# Altium integrated library Linear Technology Power Management Current Sources.IntLib: 79 symbols (part 2 of 7)
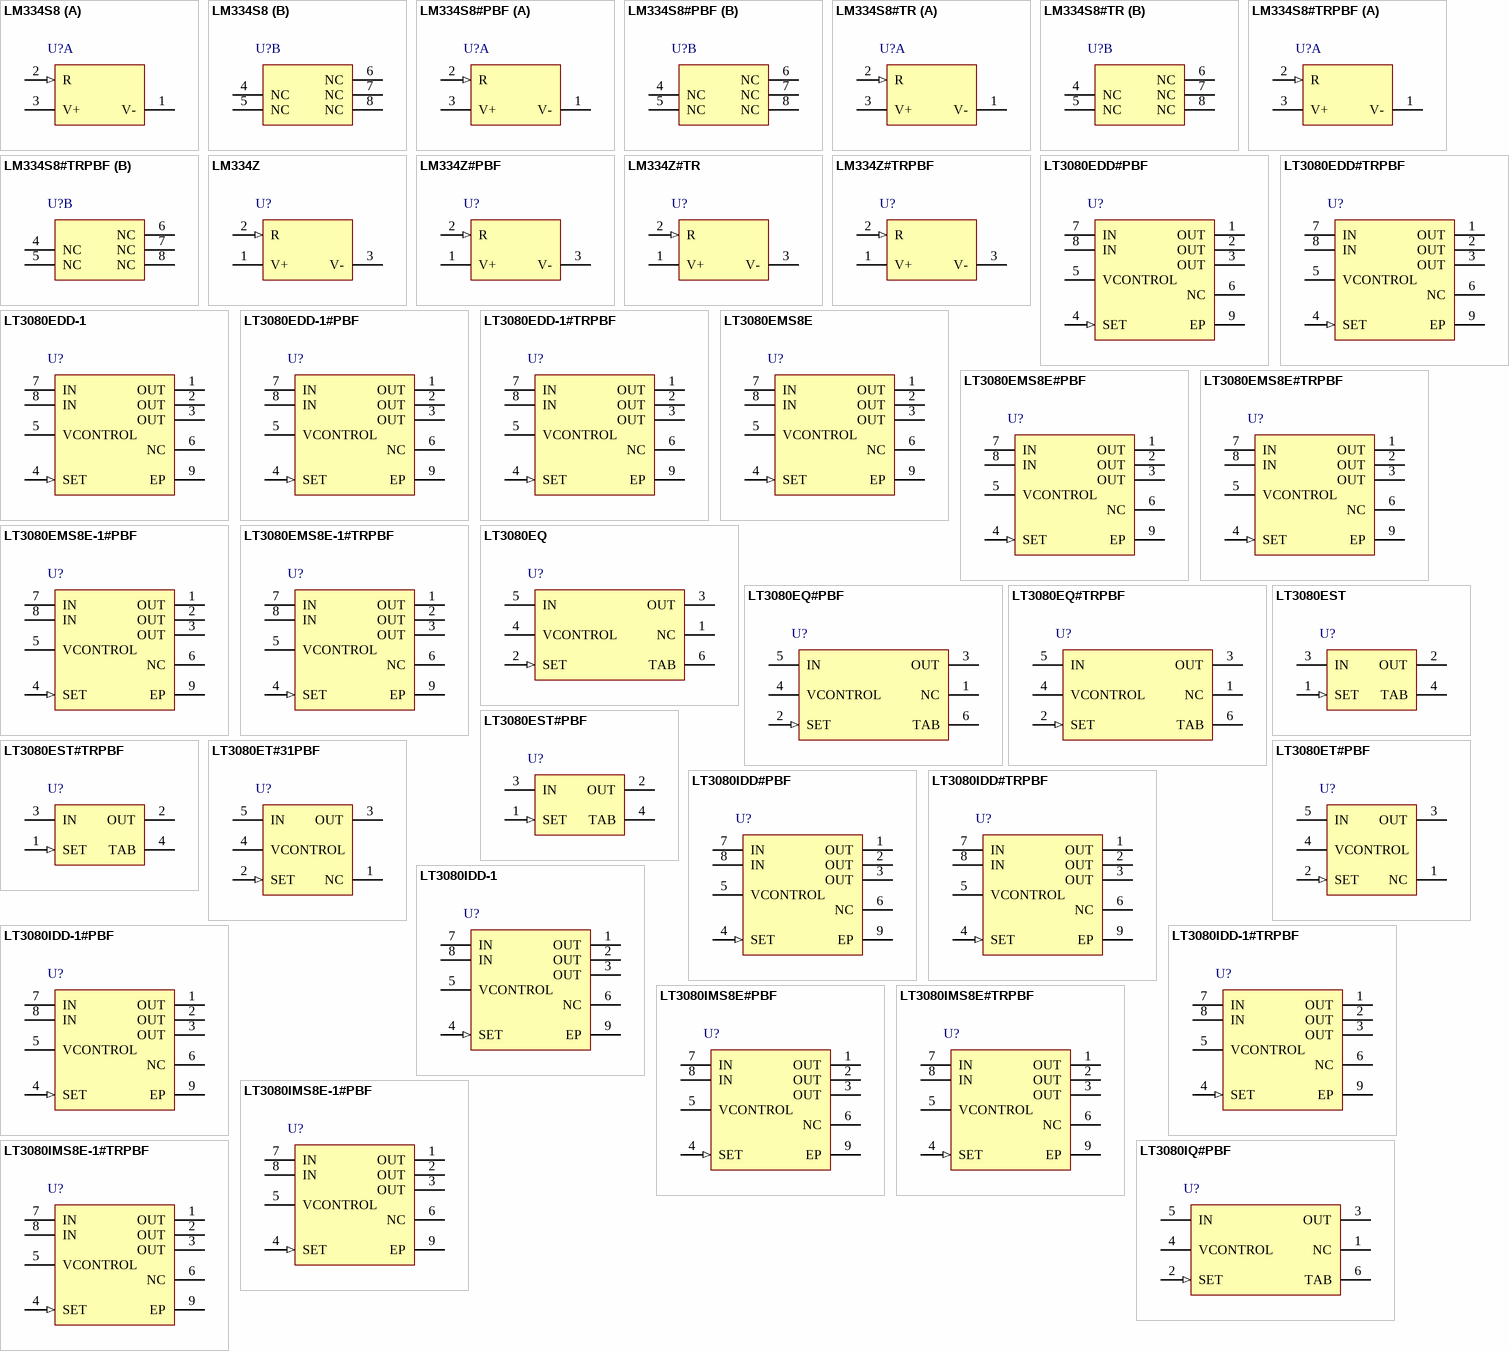
[diagram p3: symbols LM334S8 to LT3080IQ#PBF]

## LT3080EST#TRPBF
designator U?
Adjustable 1.1 A Single Resistor Low Dropout Regulator, 0.3 mA Isupply, 3-pin SOT223 (ST-3), -40 to 125 degC, Pb-Free, Tape and Reel; Manufacturer: Linear Technology; PartNumber: LT3080EST#TRPBF; Extended Temp: E, I; Initial Accuracy(%): 1; Isupply(mA): 0.3; Vin Max(V): 36; Vin Min(V): 1.2; DatasheetVersion: Rev. F; PackageVersion: Jun-10; PackageReference: ST-3; PackageDescription: 3-Pin Plastic SOT-223, Body 3.505 x 6.505 mm, Pitch 2.3 mm; Supplier 1: Digi-Key; Supplier Part Number 1: LT3080EST#TRPBFTR-ND; Supplier 2: Digi-Key; Supplier Part Number 2: LT3080EST#TRPBFCT-ND; Supplier 3: Digi-Key; Supplier Part Number 3: LT3080EST#TRPBFDKR-ND; Supplier 4: Newark; Supplier Part Number 4: 75M4719; Packing: Tape and Reel; RoHS: TRUE; Mounting Technology: Surface Mount; ComponentLink1Description: Manufacturer URL; ComponentLink1URL: http://www.linear.com/; ComponentLink2Description: Datasheet; ComponentLink2URL: http://cds.linear.com/docs/en/datasheet/3080fc.pdf; ComponentLink3Description: Package Specification; ComponentLink3URL: http://cds.linear.com/docs/en/packaging/SOT_3_05-08-1630.pdf
footprint LT-ST-3-SOT-223_N (SOT223, 4-Leads, Body 6.505x3.505mm, Pitch 2.3mm, IPC Medium Density)
footprint LT-ST-3-SOT-223_L (SOT223, 4-Leads, Body 6.505x3.505mm, Pitch 2.3mm, IPC High Density)
footprint LT-ST-3-SOT-223_M (SOT223, 4-Leads, Body 6.505x3.505mm, Pitch 2.3mm, IPC Low Density)
pins: 1 SET (in) "This pin is the error amplifier’s noninverting input and also sets the operating bias point of the circuit. A fixed 10uA current source flows out of this pin. Two resistors program IOUT as a function of the resistor rati(See Datasheet)", 2 OUT (power) "This is the power output of the device. The minimum current source value to which the device can be set is 0.5mA or the device will not regulate.", 3 IN (power) "This pin supplies power to bias internal circuitry and supply output load current. For the device to operate properly and regulate, the voltage on this pin must be 1.2V to 1.4V above the OUT pin (depending on output load (See Datasheet)", 4 TAB (power)

## LT3080ET#31PBF
designator U?
Adjustable 1.1 A Single Resistor Low Dropout Regulator, 0.3 mA Isupply, 5-pin FM (T-5), -40 to 125 degC, Pb-Free; Manufacturer: Linear Technology; PartNumber: LT3080ET#31PBF; Extended Temp: E, I; Initial Accuracy(%): 1; Isupply(mA): 0.3; Vin Max(V): 36; Vin Min(V): 1.2; DatasheetVersion: Rev. F; PackageVersion: Aug-10; PackageReference: T-5; PackageDescription: 5-Pin Plastic TO-220 (Standard), Body 10.224 x 8.89 mm, Pitch 1.7 mm; Supplier 1: Digi-Key; Supplier Part Number 1: LT3080ET#31PBF-ND; RoHS: TRUE; Mounting Technology: Through Hole; ComponentLink1Description: Manufacturer URL; ComponentLink1URL: http://www.linear.com/; ComponentLink2Description: Datasheet; ComponentLink2URL: http://cds.linear.com/docs/en/datasheet/3080fc.pdf; ComponentLink3Description: Package Specification; ComponentLink3URL: http://cds.linear.com/docs/en/packaging/TO-220_5_05-08-1421.pdf
footprint LT-T-5-S (FM, 5-Leads, Body 10.2235x4.3815mm, Pitch 1.7mm)
pins: 1 NC "No Connection. No connect pins have no connection to internal circuitry and may be tied to VIN, VCONTROL, VOUT , GND or floated.", 2 SET (in) "This pin is the input to the error amplifier and the regulation set point for the device. A fixed current of 10uA flows out of this pin through a single external resistor, which programs the output voltage of the device. (See Datasheet)", 3 OUT (power) "This is the power output of the device. There must be a minimum load current of 1mA or the output may not regulate.", 4 VCONTROL (power) "This pin is the supply pin for the control circuitry of the device. The current flow into this pin is about 1.7% of the output current. For the device to regulate, this voltage must be more than 1.2V to 1.35V greater than (See Datasheet)", 5 IN (power) "This is the collector to the power device of the LT3080. The output load current is supplied through this pin. For the device to regulate, the voltage at this pin must be more than 0.1V to 0.5V greater than the output (See Datasheet)"

## LT3080ET#PBF
designator U?
Adjustable 1.1 A Single Resistor Low Dropout Regulator, 0.3 mA Isupply, 5-pin FM (T-5), -40 to 125 degC, Pb-Free; Manufacturer: Linear Technology; PartNumber: LT3080ET#PBF; Extended Temp: E, I; Initial Accuracy(%): 1; Isupply(mA): 0.3; Vin Max(V): 36; Vin Min(V): 1.2; DatasheetVersion: Rev. F; PackageVersion: Aug-10; PackageReference: T-5; PackageDescription: 5-Pin Plastic TO-220 (Standard), Body 10.224 x 8.89 mm, Pitch 1.7 mm; Supplier 1: Digi-Key; Supplier Part Number 1: LT3080ET#PBF-ND; Supplier 2: Farnell; Supplier Part Number 2: 2102611; Supplier 3: Farnell; Supplier Part Number 3: 1537445; Supplier 4: Newark; Supplier Part Number 4: 64M0567; RoHS: TRUE; Mounting Technology: Through Hole; ComponentLink1Description: Manufacturer URL; ComponentLink1URL: http://www.linear.com/; ComponentLink2Description: Datasheet; ComponentLink2URL: http://cds.linear.com/docs/en/datasheet/3080fc.pdf; ComponentLink3Description: Package Specification; ComponentLink3URL: http://cds.linear.com/docs/en/packaging/TO-220_5_05-08-1421.pdf
footprint LT-T-5-S (FM, 5-Leads, Body 10.2235x4.3815mm, Pitch 1.7mm)
pins: 1 NC "No Connection. No connect pins have no connection to internal circuitry and may be tied to VIN, VCONTROL, VOUT , GND or floated.", 2 SET (in) "This pin is the input to the error amplifier and the regulation set point for the device. A fixed current of 10uA flows out of this pin through a single external resistor, which programs the output voltage of the device. (See Datasheet)", 3 OUT (power) "This is the power output of the device. There must be a minimum load current of 1mA or the output may not regulate.", 4 VCONTROL (power) "This pin is the supply pin for the control circuitry of the device. The current flow into this pin is about 1.7% of the output current. For the device to regulate, this voltage must be more than 1.2V to 1.35V greater than (See Datasheet)", 5 IN (power) "This is the collector to the power device of the LT3080. The output load current is supplied through this pin. For the device to regulate, the voltage at this pin must be more than 0.1V to 0.5V greater than the output (See Datasheet)"

## LT3080IDD#PBF
designator U?
Adjustable 1.1 A Single Resistor Low Dropout Regulator, 0.3 mA Isupply, 8-pin SON (DD-8), -40 to 125 degC, Pb-Free; Manufacturer: Linear Technology; PartNumber: LT3080IDD#PBF; Extended Temp: E, I; Initial Accuracy(%): 1; Isupply(mA): 0.3; Vin Max(V): 36; Vin Min(V): 1.2; DatasheetVersion: Rev. F; PackageVersion: Jun-10; PackageReference: DD-8; PackageDescription: 8-Pin Plastic DFN, Body 3 x 3 mm, Pitch 0.5 mm; Supplier 1: Digi-Key; Supplier Part Number 1: LT3080IDD#PBF-ND; Supplier 2: Newark; Supplier Part Number 2: 78T3967; RoHS: TRUE; Mounting Technology: Surface Mount; Code_JEDEC: MO-229; ComponentLink1Description: Manufacturer URL; ComponentLink1URL: http://www.linear.com/; ComponentLink2Description: Datasheet; ComponentLink2URL: http://cds.linear.com/docs/en/datasheet/3080fc.pdf; ComponentLink3Description: Package Specification; ComponentLink3URL: http://cds.linear.com/docs/en/packaging/DFN_8_05-08-1698.pdf
footprint LT-DD-8_V (SON, 8-Leads, Body 3x3mm, Pitch 0.5mm, Thermal Pad 1.65x2.38 mm, IPC Low Density)
pins: 1 OUT (power) "This is the power output of the device. There must be a minimum load current of 1mA or the output may not regulate.", 2 OUT (power) "This is the power output of the device. There must be a minimum load current of 1mA or the output may not regulate.", 3 OUT (power) "This is the power output of the device. There must be a minimum load current of 1mA or the output may not regulate.", 4 SET (in) "This pin is the input to the error amplifier and the regulation set point for the device. A fixed current of 10uA flows out of this pin through a single external resistor, which programs the output voltage of the device. (See Datasheet)", 5 VCONTROL (power) "This pin is the supply pin for the control circuitry of the device. The current flow into this pin is about 1.7% of the output current. For the device to regulate, this voltage must be more than 1.2V to 1.35V greater than (See Datasheet)", 6 NC "No Connection. No Connect pins have no connection to internal circuitry and may be tied to VIN, VCONTROL, VOUT , GND, or floated.", 7 IN (power) "This is the collector to the power device of the LT3080-1. The output load current is supplied through this pin. For the device to regulate, the voltage at this pin must be more than 0.1V to 0.5V greater than the output (See Datasheet)", 8 IN (power) "This is the collector to the power device of the LT3080-1. The output load current is supplied through this pin. For the device to regulate, the voltage at this pin must be more than 0.1V to 0.5V greater than the output (See Datasheet)", 9 EP (power) "OUT on MS8E and DFN packages."

## LT3080IDD#TRPBF
designator U?
Adjustable 1.1 A Single Resistor Low Dropout Regulator, 0.3 mA Isupply, 8-pin SON (DD-8), -40 to 125 degC, Pb-Free, Tape and Reel; Manufacturer: Linear Technology; PartNumber: LT3080IDD#TRPBF; Extended Temp: E, I; Initial Accuracy(%): 1; Isupply(mA): 0.3; Vin Max(V): 36; Vin Min(V): 1.2; DatasheetVersion: Rev. F; PackageVersion: Jun-10; PackageReference: DD-8; PackageDescription: 8-Pin Plastic DFN, Body 3 x 3 mm, Pitch 0.5 mm; Supplier 1: Digi-Key; Supplier Part Number 1: LT3080IDD#TRPBF-ND; Packing: Tape and Reel; RoHS: TRUE; Mounting Technology: Surface Mount; Code_JEDEC: MO-229; ComponentLink1Description: Manufacturer URL; ComponentLink1URL: http://www.linear.com/; ComponentLink2Description: Datasheet; ComponentLink2URL: http://cds.linear.com/docs/en/datasheet/3080fc.pdf; ComponentLink3Description: Package Specification; ComponentLink3URL: http://cds.linear.com/docs/en/packaging/DFN_8_05-08-1698.pdf
footprint LT-DD-8_V (SON, 8-Leads, Body 3x3mm, Pitch 0.5mm, Thermal Pad 1.65x2.38 mm, IPC Low Density)
pins: 1 OUT (power) "This is the power output of the device. There must be a minimum load current of 1mA or the output may not regulate.", 2 OUT (power) "This is the power output of the device. There must be a minimum load current of 1mA or the output may not regulate.", 3 OUT (power) "This is the power output of the device. There must be a minimum load current of 1mA or the output may not regulate.", 4 SET (in) "This pin is the input to the error amplifier and the regulation set point for the device. A fixed current of 10uA flows out of this pin through a single external resistor, which programs the output voltage of the device. (See Datasheet)", 5 VCONTROL (power) "This pin is the supply pin for the control circuitry of the device. The current flow into this pin is about 1.7% of the output current. For the device to regulate, this voltage must be more than 1.2V to 1.35V greater than (See Datasheet)", 6 NC "No Connection. No Connect pins have no connection to internal circuitry and may be tied to VIN, VCONTROL, VOUT , GND, or floated.", 7 IN (power) "This is the collector to the power device of the LT3080-1. The output load current is supplied through this pin. For the device to regulate, the voltage at this pin must be more than 0.1V to 0.5V greater than the output (See Datasheet)", 8 IN (power) "This is the collector to the power device of the LT3080-1. The output load current is supplied through this pin. For the device to regulate, the voltage at this pin must be more than 0.1V to 0.5V greater than the output (See Datasheet)", 9 EP (power) "OUT on MS8E and DFN packages."

## LT3080IDD-1
designator U?
Parallelable 1.1 A Adjustable Single Resistor Low Dropout Regulator, 0.3 mA Isupply, 8-pin SON (DD-8), -40 to 125 degC; Manufacturer: Linear Technology; PartNumber: LT3080IDD-1; Extended Temp: E, I; Initial Accuracy(%): 1; Isupply(mA): 0.3; Output Current Range: 0 to 2200 mA or 0 to 3300 mA; Vin Max(V): 36; Vin Min(V): 1.2; DatasheetVersion: Rev. B; PackageVersion: Jun-10; PackageReference: DD-8; PackageDescription: 8-Pin Plastic DFN, Body 3 x 3 mm, Pitch 0.5 mm; RoHS: FALSE; Mounting Technology: Surface Mount; Code_JEDEC: MO-229; ComponentLink1Description: Manufacturer URL; ComponentLink1URL: http://www.linear.com/; ComponentLink2Description: Datasheet; ComponentLink2URL: http://cds.linear.com/docs/en/datasheet/30801fb.pdf; ComponentLink3Description: Package Specification; ComponentLink3URL: http://cds.linear.com/docs/en/packaging/DFN_8_05-08-1698.pdf
footprint LT-DD-8_V (SON, 8-Leads, Body 3x3mm, Pitch 0.5mm, Thermal Pad 1.65x2.38 mm, IPC Low Density)
pins: 1 OUT (power) "This is the power output of the device. There must be a minimum load current of 1mA or the output may not regulate.", 2 OUT (power) "This is the power output of the device. There must be a minimum load current of 1mA or the output may not regulate.", 3 OUT (power) "This is the power output of the device. There must be a minimum load current of 1mA or the output may not regulate.", 4 SET (in) "This pin is the input to the error amplifier and the regulation set point for the device. A fixed current of 10uA flows out of this pin through a single external resistor, which programs the output voltage of the device. (See Datasheet)", 5 VCONTROL (power) "This pin is the supply pin for the control circuitry of the device. The current flow into this pin is about 1.7% of the output current. For the device to regulate, this voltage must be more than 1.2V to 1.35V greater than (See Datasheet)", 6 NC "No Connection. No Connect pins have no connection to internal circuitry and may be tied to VIN, VCONTROL, VOUT , GND, or floated.", 7 IN (power) "This is the collector to the power device of the LT3080-1. The output load current is supplied through this pin. For the device to regulate, the voltage at this pin must be more than 0.1V to 0.5V greater than the output (See Datasheet)", 8 IN (power) "This is the collector to the power device of the LT3080-1. The output load current is supplied through this pin. For the device to regulate, the voltage at this pin must be more than 0.1V to 0.5V greater than the output (See Datasheet)", 9 EP (power) "OUT on MS8E and DFN packages."

## LT3080IDD-1#PBF
designator U?
Parallelable 1.1 A Adjustable Single Resistor Low Dropout Regulator, 0.3 mA Isupply, 8-pin SON (DD-8), -40 to 125 degC, Pb-Free; Manufacturer: Linear Technology; PartNumber: LT3080IDD-1#PBF; Extended Temp: E, I; Initial Accuracy(%): 1; Isupply(mA): 0.3; Output Current Range: 0 to 2200 mA or 0 to 3300 mA; Vin Max(V): 36; Vin Min(V): 1.2; DatasheetVersion: Rev. B; PackageVersion: Jun-10; PackageReference: DD-8; PackageDescription: 8-Pin Plastic DFN, Body 3 x 3 mm, Pitch 0.5 mm; Supplier 1: Digi-Key; Supplier Part Number 1: LT3080IDD-1#PBF-ND; Supplier 2: Newark; Supplier Part Number 2: 78T3965; RoHS: TRUE; Mounting Technology: Surface Mount; Code_JEDEC: MO-229; ComponentLink1Description: Manufacturer URL; ComponentLink1URL: http://www.linear.com/; ComponentLink2Description: Datasheet; ComponentLink2URL: http://cds.linear.com/docs/en/datasheet/30801fb.pdf; ComponentLink3Description: Package Specification; ComponentLink3URL: http://cds.linear.com/docs/en/packaging/DFN_8_05-08-1698.pdf
footprint LT-DD-8_V (SON, 8-Leads, Body 3x3mm, Pitch 0.5mm, Thermal Pad 1.65x2.38 mm, IPC Low Density)
pins: 1 OUT (power) "This is the power output of the device. There must be a minimum load current of 1mA or the output may not regulate.", 2 OUT (power) "This is the power output of the device. There must be a minimum load current of 1mA or the output may not regulate.", 3 OUT (power) "This is the power output of the device. There must be a minimum load current of 1mA or the output may not regulate.", 4 SET (in) "This pin is the input to the error amplifier and the regulation set point for the device. A fixed current of 10uA flows out of this pin through a single external resistor, which programs the output voltage of the device. (See Datasheet)", 5 VCONTROL (power) "This pin is the supply pin for the control circuitry of the device. The current flow into this pin is about 1.7% of the output current. For the device to regulate, this voltage must be more than 1.2V to 1.35V greater than (See Datasheet)", 6 NC "No Connection. No Connect pins have no connection to internal circuitry and may be tied to VIN, VCONTROL, VOUT , GND, or floated.", 7 IN (power) "This is the collector to the power device of the LT3080-1. The output load current is supplied through this pin. For the device to regulate, the voltage at this pin must be more than 0.1V to 0.5V greater than the output (See Datasheet)", 8 IN (power) "This is the collector to the power device of the LT3080-1. The output load current is supplied through this pin. For the device to regulate, the voltage at this pin must be more than 0.1V to 0.5V greater than the output (See Datasheet)", 9 EP (power) "OUT on MS8E and DFN packages."

## LT3080IDD-1#TRPBF
designator U?
Parallelable 1.1 A Adjustable Single Resistor Low Dropout Regulator, 0.3 mA Isupply, 8-pin SON (DD-8), -40 to 125 degC, Pb-Free, Tape and Reel; Manufacturer: Linear Technology; PartNumber: LT3080IDD-1#TRPBF; Extended Temp: E, I; Initial Accuracy(%): 1; Isupply(mA): 0.3; Output Current Range: 0 to 2200 mA or 0 to 3300 mA; Vin Max(V): 36; Vin Min(V): 1.2; DatasheetVersion: Rev. B; PackageVersion: Jun-10; PackageReference: DD-8; PackageDescription: 8-Pin Plastic DFN, Body 3 x 3 mm, Pitch 0.5 mm; Supplier 1: Digi-Key; Supplier Part Number 1: LT3080IDD-1#TRPBF-ND; Packing: Tape and Reel; RoHS: TRUE; Mounting Technology: Surface Mount; Code_JEDEC: MO-229; ComponentLink1Description: Manufacturer URL; ComponentLink1URL: http://www.linear.com/; ComponentLink2Description: Datasheet; ComponentLink2URL: http://cds.linear.com/docs/en/datasheet/30801fb.pdf; ComponentLink3Description: Package Specification; ComponentLink3URL: http://cds.linear.com/docs/en/packaging/DFN_8_05-08-1698.pdf
footprint LT-DD-8_V (SON, 8-Leads, Body 3x3mm, Pitch 0.5mm, Thermal Pad 1.65x2.38 mm, IPC Low Density)
pins: 1 OUT (power) "This is the power output of the device. There must be a minimum load current of 1mA or the output may not regulate.", 2 OUT (power) "This is the power output of the device. There must be a minimum load current of 1mA or the output may not regulate.", 3 OUT (power) "This is the power output of the device. There must be a minimum load current of 1mA or the output may not regulate.", 4 SET (in) "This pin is the input to the error amplifier and the regulation set point for the device. A fixed current of 10uA flows out of this pin through a single external resistor, which programs the output voltage of the device. (See Datasheet)", 5 VCONTROL (power) "This pin is the supply pin for the control circuitry of the device. The current flow into this pin is about 1.7% of the output current. For the device to regulate, this voltage must be more than 1.2V to 1.35V greater than (See Datasheet)", 6 NC "No Connection. No Connect pins have no connection to internal circuitry and may be tied to VIN, VCONTROL, VOUT , GND, or floated.", 7 IN (power) "This is the collector to the power device of the LT3080-1. The output load current is supplied through this pin. For the device to regulate, the voltage at this pin must be more than 0.1V to 0.5V greater than the output (See Datasheet)", 8 IN (power) "This is the collector to the power device of the LT3080-1. The output load current is supplied through this pin. For the device to regulate, the voltage at this pin must be more than 0.1V to 0.5V greater than the output (See Datasheet)", 9 EP (power) "OUT on MS8E and DFN packages."

## LT3080IMS8E#PBF
designator U?
Adjustable 1.1 A Single Resistor Low Dropout Regulator, 0.3 mA Isupply, 8-pin SOP (MS8E-8), -40 to 125 degC, Pb-Free; Manufacturer: Linear Technology; PartNumber: LT3080IMS8E#PBF; Extended Temp: E, I; Initial Accuracy(%): 1; Isupply(mA): 0.3; Vin Max(V): 36; Vin Min(V): 1.2; DatasheetVersion: Rev. F; PackageVersion: Rev. F; PackageReference: MS8E-8; PackageDescription: 8-Pin Plastic MSOP, Exposed Die Pad, Body 3 x 3 mm, Pitch 0.65 mm; Supplier 1: Digi-Key; Supplier Part Number 1: LT3080IMS8E#PBF-ND; Supplier 2: Newark; Supplier Part Number 2: 78T3971; RoHS: TRUE; Mounting Technology: Surface Mount; ComponentLink1Description: Manufacturer URL; ComponentLink1URL: http://www.linear.com/; ComponentLink2Description: Datasheet; ComponentLink2URL: http://cds.linear.com/docs/en/datasheet/3080fc.pdf; ComponentLink3Description: Package Specification; ComponentLink3URL: http://cds.linear.com/docs/en/datasheet/3080fc.pdf
footprint LT-MS8E-8-1880X1680TP_N (SOP, 8-Leads, Body 3x3mm, Pitch 0.65mm, Thermal Pad 1.88x1.68mm, IPC Medium Density)
footprint LT-MS8E-8-1880X1680TP_L (SOP, 8-Leads, Body 3x3mm, Pitch 0.65mm, Thermal Pad 1.88x1.68mm, IPC High Density)
footprint LT-MS8E-8-1880X1680TP_M (SOP, 8-Leads, Body 3x3mm, Pitch 0.65mm, Thermal Pad 1.88x1.68mm, IPC Low Density)
pins: 1 OUT (power) "This is the power output of the device. There must be a minimum load current of 1mA or the output may not regulate.", 2 OUT (power) "This is the power output of the device. There must be a minimum load current of 1mA or the output may not regulate.", 3 OUT (power) "This is the power output of the device. There must be a minimum load current of 1mA or the output may not regulate.", 4 SET (in) "This pin is the input to the error amplifier and the regulation set point for the device. A fixed current of 10uA flows out of this pin through a single external resistor, which programs the output voltage of the device. (See Datasheet)", 5 VCONTROL (power) "This pin is the supply pin for the control circuitry of the device. The current flow into this pin is about 1.7% of the output current. For the device to regulate, this voltage must be more than 1.2V to 1.35V greater than (See Datasheet)", 6 NC "No Connection. No Connect pins have no connection to internal circuitry and may be tied to VIN, VCONTROL, VOUT , GND, or floated.", 7 IN (power) "This is the collector to the power device of the LT3080-1. The output load current is supplied through this pin. For the device to regulate, the voltage at this pin must be more than 0.1V to 0.5V greater than the output (See Datasheet)", 8 IN (power) "This is the collector to the power device of the LT3080-1. The output load current is supplied through this pin. For the device to regulate, the voltage at this pin must be more than 0.1V to 0.5V greater than the output (See Datasheet)", 9 EP (power) "OUT on MS8E and DFN packages."

## LT3080IMS8E#TRPBF
designator U?
Adjustable 1.1 A Single Resistor Low Dropout Regulator, 0.3 mA Isupply, 8-pin SOP (MS8E-8), -40 to 125 degC, Pb-Free, Tape and Reel; Manufacturer: Linear Technology; PartNumber: LT3080IMS8E#TRPBF; Extended Temp: E, I; Initial Accuracy(%): 1; Isupply(mA): 0.3; Vin Max(V): 36; Vin Min(V): 1.2; DatasheetVersion: Rev. F; PackageVersion: Rev. F; PackageReference: MS8E-8; PackageDescription: 8-Pin Plastic MSOP, Exposed Die Pad, Body 3 x 3 mm, Pitch 0.65 mm; Supplier 1: Digi-Key; Supplier Part Number 1: LT3080IMS8E#TRPBF-ND; Packing: Tape and Reel; RoHS: TRUE; Mounting Technology: Surface Mount; ComponentLink1Description: Manufacturer URL; ComponentLink1URL: http://www.linear.com/; ComponentLink2Description: Datasheet; ComponentLink2URL: http://cds.linear.com/docs/en/datasheet/3080fc.pdf; ComponentLink3Description: Package Specification; ComponentLink3URL: http://cds.linear.com/docs/en/datasheet/3080fc.pdf
footprint LT-MS8E-8-1880X1680TP_N (SOP, 8-Leads, Body 3x3mm, Pitch 0.65mm, Thermal Pad 1.88x1.68mm, IPC Medium Density)
footprint LT-MS8E-8-1880X1680TP_L (SOP, 8-Leads, Body 3x3mm, Pitch 0.65mm, Thermal Pad 1.88x1.68mm, IPC High Density)
footprint LT-MS8E-8-1880X1680TP_M (SOP, 8-Leads, Body 3x3mm, Pitch 0.65mm, Thermal Pad 1.88x1.68mm, IPC Low Density)
pins: 1 OUT (power) "This is the power output of the device. There must be a minimum load current of 1mA or the output may not regulate.", 2 OUT (power) "This is the power output of the device. There must be a minimum load current of 1mA or the output may not regulate.", 3 OUT (power) "This is the power output of the device. There must be a minimum load current of 1mA or the output may not regulate.", 4 SET (in) "This pin is the input to the error amplifier and the regulation set point for the device. A fixed current of 10uA flows out of this pin through a single external resistor, which programs the output voltage of the device. (See Datasheet)", 5 VCONTROL (power) "This pin is the supply pin for the control circuitry of the device. The current flow into this pin is about 1.7% of the output current. For the device to regulate, this voltage must be more than 1.2V to 1.35V greater than (See Datasheet)", 6 NC "No Connection. No Connect pins have no connection to internal circuitry and may be tied to VIN, VCONTROL, VOUT , GND, or floated.", 7 IN (power) "This is the collector to the power device of the LT3080-1. The output load current is supplied through this pin. For the device to regulate, the voltage at this pin must be more than 0.1V to 0.5V greater than the output (See Datasheet)", 8 IN (power) "This is the collector to the power device of the LT3080-1. The output load current is supplied through this pin. For the device to regulate, the voltage at this pin must be more than 0.1V to 0.5V greater than the output (See Datasheet)", 9 EP (power) "OUT on MS8E and DFN packages."

## LT3080IMS8E-1#PBF
designator U?
Parallelable 1.1 A Adjustable Single Resistor Low Dropout Regulator, 0.3 mA Isupply, 8-pin SOP (MS8E-8), -40 to 125 degC, Pb-Free; Manufacturer: Linear Technology; PartNumber: LT3080IMS8E-1#PBF; Extended Temp: E, I; Initial Accuracy(%): 1; Isupply(mA): 0.3; Output Current Range: 0 to 2200 mA or 0 to 3300 mA; Vin Max(V): 36; Vin Min(V): 1.2; DatasheetVersion: Rev. B; PackageVersion: Rev. F; PackageReference: MS8E-8; PackageDescription: 8-Pin Plastic MSOP, Exposed Die Pad, Body 3 x 3 mm, Pitch 0.65 mm; Supplier 1: Digi-Key; Supplier Part Number 1: LT3080IMS8E-1#PBF-ND; Supplier 2: Farnell; Supplier Part Number 2: 2295274; RoHS: TRUE; Mounting Technology: Surface Mount; ComponentLink1Description: Manufacturer URL; ComponentLink1URL: http://www.linear.com/; ComponentLink2Description: Datasheet; ComponentLink2URL: http://cds.linear.com/docs/en/datasheet/30801fb.pdf; ComponentLink3Description: Package Specification; ComponentLink3URL: http://cds.linear.com/docs/en/datasheet/3080fc.pdf
footprint LT-MS8E-8-1880X1680TP_N (SOP, 8-Leads, Body 3x3mm, Pitch 0.65mm, Thermal Pad 1.88x1.68mm, IPC Medium Density)
footprint LT-MS8E-8-1880X1680TP_L (SOP, 8-Leads, Body 3x3mm, Pitch 0.65mm, Thermal Pad 1.88x1.68mm, IPC High Density)
footprint LT-MS8E-8-1880X1680TP_M (SOP, 8-Leads, Body 3x3mm, Pitch 0.65mm, Thermal Pad 1.88x1.68mm, IPC Low Density)
pins: 1 OUT (power) "This is the power output of the device. There must be a minimum load current of 1mA or the output may not regulate.", 2 OUT (power) "This is the power output of the device. There must be a minimum load current of 1mA or the output may not regulate.", 3 OUT (power) "This is the power output of the device. There must be a minimum load current of 1mA or the output may not regulate.", 4 SET (in) "This pin is the input to the error amplifier and the regulation set point for the device. A fixed current of 10uA flows out of this pin through a single external resistor, which programs the output voltage of the device. (See Datasheet)", 5 VCONTROL (power) "This pin is the supply pin for the control circuitry of the device. The current flow into this pin is about 1.7% of the output current. For the device to regulate, this voltage must be more than 1.2V to 1.35V greater than (See Datasheet)", 6 NC "No Connection. No Connect pins have no connection to internal circuitry and may be tied to VIN, VCONTROL, VOUT , GND, or floated.", 7 IN (power) "This is the collector to the power device of the LT3080-1. The output load current is supplied through this pin. For the device to regulate, the voltage at this pin must be more than 0.1V to 0.5V greater than the output (See Datasheet)", 8 IN (power) "This is the collector to the power device of the LT3080-1. The output load current is supplied through this pin. For the device to regulate, the voltage at this pin must be more than 0.1V to 0.5V greater than the output (See Datasheet)", 9 EP (power) "OUT on MS8E and DFN packages."

## LT3080IMS8E-1#TRPBF
designator U?
Parallelable 1.1 A Adjustable Single Resistor Low Dropout Regulator, 0.3 mA Isupply, 8-pin SOP (MS8E-8), -40 to 125 degC, Pb-Free, Tape and Reel; Manufacturer: Linear Technology; PartNumber: LT3080IMS8E-1#TRPBF; Extended Temp: E, I; Initial Accuracy(%): 1; Isupply(mA): 0.3; Output Current Range: 0 to 2200 mA or 0 to 3300 mA; Vin Max(V): 36; Vin Min(V): 1.2; DatasheetVersion: Rev. B; PackageVersion: Rev. F; PackageReference: MS8E-8; PackageDescription: 8-Pin Plastic MSOP, Exposed Die Pad, Body 3 x 3 mm, Pitch 0.65 mm; Supplier 1: Digi-Key; Supplier Part Number 1: LT3080IMS8E-1#TRPBF-ND; Packing: Tape and Reel; RoHS: TRUE; Mounting Technology: Surface Mount; ComponentLink1Description: Manufacturer URL; ComponentLink1URL: http://www.linear.com/; ComponentLink2Description: Datasheet; ComponentLink2URL: http://cds.linear.com/docs/en/datasheet/30801fb.pdf; ComponentLink3Description: Package Specification; ComponentLink3URL: http://cds.linear.com/docs/en/datasheet/3080fc.pdf
footprint LT-MS8E-8-1880X1680TP_N (SOP, 8-Leads, Body 3x3mm, Pitch 0.65mm, Thermal Pad 1.88x1.68mm, IPC Medium Density)
footprint LT-MS8E-8-1880X1680TP_L (SOP, 8-Leads, Body 3x3mm, Pitch 0.65mm, Thermal Pad 1.88x1.68mm, IPC High Density)
footprint LT-MS8E-8-1880X1680TP_M (SOP, 8-Leads, Body 3x3mm, Pitch 0.65mm, Thermal Pad 1.88x1.68mm, IPC Low Density)
pins: 1 OUT (power) "This is the power output of the device. There must be a minimum load current of 1mA or the output may not regulate.", 2 OUT (power) "This is the power output of the device. There must be a minimum load current of 1mA or the output may not regulate.", 3 OUT (power) "This is the power output of the device. There must be a minimum load current of 1mA or the output may not regulate.", 4 SET (in) "This pin is the input to the error amplifier and the regulation set point for the device. A fixed current of 10uA flows out of this pin through a single external resistor, which programs the output voltage of the device. (See Datasheet)", 5 VCONTROL (power) "This pin is the supply pin for the control circuitry of the device. The current flow into this pin is about 1.7% of the output current. For the device to regulate, this voltage must be more than 1.2V to 1.35V greater than (See Datasheet)", 6 NC "No Connection. No Connect pins have no connection to internal circuitry and may be tied to VIN, VCONTROL, VOUT , GND, or floated.", 7 IN (power) "This is the collector to the power device of the LT3080-1. The output load current is supplied through this pin. For the device to regulate, the voltage at this pin must be more than 0.1V to 0.5V greater than the output (See Datasheet)", 8 IN (power) "This is the collector to the power device of the LT3080-1. The output load current is supplied through this pin. For the device to regulate, the voltage at this pin must be more than 0.1V to 0.5V greater than the output (See Datasheet)", 9 EP (power) "OUT on MS8E and DFN packages."

## LT3080IQ#PBF
designator U?
Adjustable 1.1 A Single Resistor Low Dropout Regulator, 0.3 mA Isupply, 5-pin DPAK (Q-5), -40 to 125 degC, Pb-Free; Manufacturer: Linear Technology; PartNumber: LT3080IQ#PBF; Extended Temp: E, I; Initial Accuracy(%): 1; Isupply(mA): 0.3; Vin Max(V): 36; Vin Min(V): 1.2; DatasheetVersion: Rev. F; PackageVersion: Rev. F, 09/2011; PackageReference: Q-5; PackageDescription: 5-Pin Plastic DD Pak, Body 10.2235 x 8.89 mm, Pitch 1.702 mm; Supplier 1: Digi-Key; Supplier Part Number 1: LT3080IQ#PBF-ND; Supplier 2: Newark; Supplier Part Number 2: 78T3973; RoHS: TRUE; Mounting Technology: Surface Mount; ComponentLink1Description: Manufacturer URL; ComponentLink1URL: http://www.linear.com/; ComponentLink2Description: Datasheet; ComponentLink2URL: http://cds.linear.com/docs/en/datasheet/3080fc.pdf; ComponentLink3Description: Package Specification; ComponentLink3URL: http://cds.linear.com/docs/en/packaging/Q%20DD5%2005-08-1461%20Rev%20F.pdf
footprint LT-Q-5_N (DPAK, 5-Leads, Body 10.22x8.89mm, Pitch 1.702mm, IPC Medium Density)
footprint LT-Q-5_L (DPAK, 5-Leads, Body 10.22x8.89mm, Pitch 1.702mm, IPC High Density)
footprint LT-Q-5_M (DPAK, 5-Leads, Body 10.22x8.89mm, Pitch 1.702mm, IPC Low Density)
pins: 1 NC "No Connection. No connect pins have no connection to internal circuitry and may be tied to VIN, VCONTROL, VOUT , GND or floated.", 2 SET (in) "This pin is the input to the error amplifier and the regulation set point for the device. A fixed current of 10uA flows out of this pin through a single external resistor, which programs the output voltage of the device. (See Datasheet)", 3 OUT (power) "This is the power output of the device. There must be a minimum load current of 1mA or the output may not regulate.", 4 VCONTROL (power) "This pin is the supply pin for the control circuitry of the device. The current flow into this pin is about 1.7% of the output current. For the device to regulate, this voltage must be more than 1.2V to 1.35V greater than (See Datasheet)", 5 IN (power) "This is the collector to the power device of the LT3080. The output load current is supplied through this pin. For the device to regulate, the voltage at this pin must be more than 0.1V to 0.5V greater than the output (See Datasheet)", 6 TAB (power) "OUT on DD-Pak, TO-220 and SOT-223 packages."

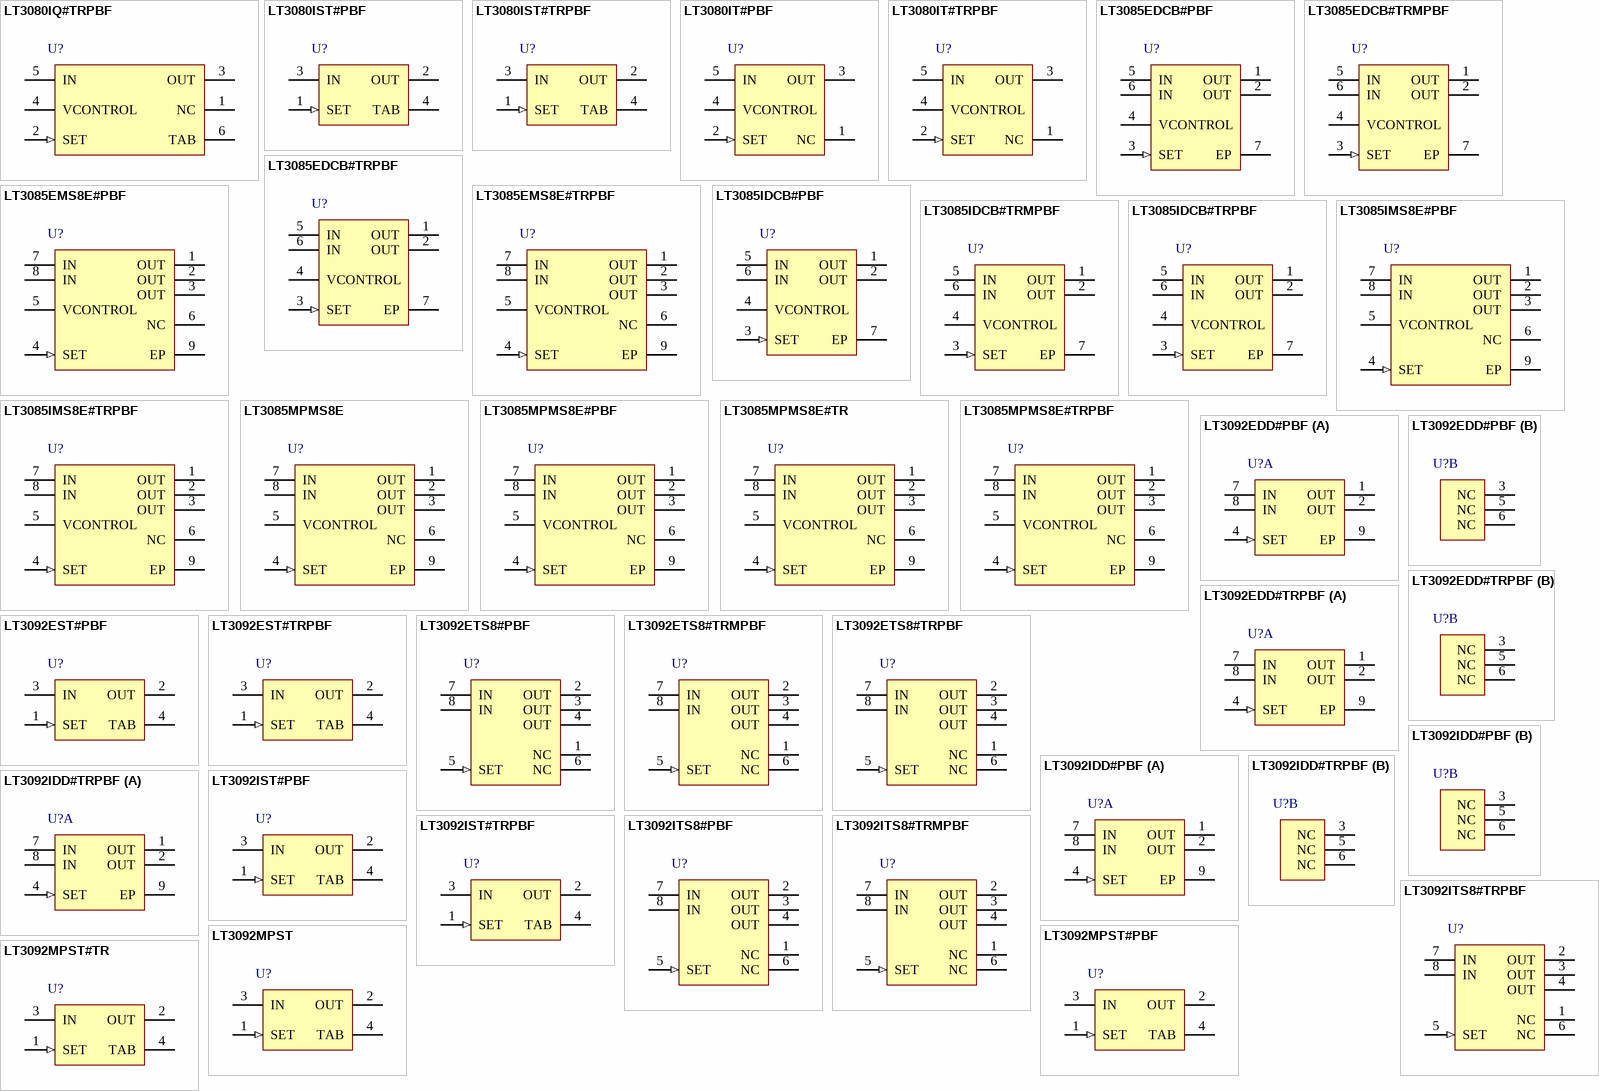
[diagram p1: symbols LT3080IQ#TRPBF to LT3092MPST#TR]

## LT3080IQ#TRPBF
designator U?
Adjustable 1.1 A Single Resistor Low Dropout Regulator, 0.3 mA Isupply, 5-pin DPAK (Q-5), -40 to 125 degC, Pb-Free, Tape and Reel; Manufacturer: Linear Technology; PartNumber: LT3080IQ#TRPBF; Extended Temp: E, I; Initial Accuracy(%): 1; Isupply(mA): 0.3; Vin Max(V): 36; Vin Min(V): 1.2; DatasheetVersion: Rev. F; PackageVersion: Rev. F, 09/2011; PackageReference: Q-5; PackageDescription: 5-Pin Plastic DD Pak, Body 10.2235 x 8.89 mm, Pitch 1.702 mm; Supplier 1: Digi-Key; Supplier Part Number 1: LT3080IQ#TRPBF-ND; Supplier 2: Newark; Supplier Part Number 2: 78T3974; Packing: Tape and Reel; RoHS: TRUE; Mounting Technology: Surface Mount; ComponentLink1Description: Manufacturer URL; ComponentLink1URL: http://www.linear.com/; ComponentLink2Description: Datasheet; ComponentLink2URL: http://cds.linear.com/docs/en/datasheet/3080fc.pdf; ComponentLink3Description: Package Specification; ComponentLink3URL: http://cds.linear.com/docs/en/packaging/Q%20DD5%2005-08-1461%20Rev%20F.pdf
footprint LT-Q-5_N (DPAK, 5-Leads, Body 10.22x8.89mm, Pitch 1.702mm, IPC Medium Density)
footprint LT-Q-5_L (DPAK, 5-Leads, Body 10.22x8.89mm, Pitch 1.702mm, IPC High Density)
footprint LT-Q-5_M (DPAK, 5-Leads, Body 10.22x8.89mm, Pitch 1.702mm, IPC Low Density)
pins: 1 NC "No Connection. No connect pins have no connection to internal circuitry and may be tied to VIN, VCONTROL, VOUT , GND or floated.", 2 SET (in) "This pin is the input to the error amplifier and the regulation set point for the device. A fixed current of 10uA flows out of this pin through a single external resistor, which programs the output voltage of the device. (See Datasheet)", 3 OUT (power) "This is the power output of the device. There must be a minimum load current of 1mA or the output may not regulate.", 4 VCONTROL (power) "This pin is the supply pin for the control circuitry of the device. The current flow into this pin is about 1.7% of the output current. For the device to regulate, this voltage must be more than 1.2V to 1.35V greater than (See Datasheet)", 5 IN (power) "This is the collector to the power device of the LT3080. The output load current is supplied through this pin. For the device to regulate, the voltage at this pin must be more than 0.1V to 0.5V greater than the output (See Datasheet)", 6 TAB (power) "OUT on DD-Pak, TO-220 and SOT-223 packages."

## LT3080IST#PBF
designator U?
Adjustable 1.1 A Single Resistor Low Dropout Regulator, 0.3 mA Isupply, 3-pin SOT223 (ST-3), -40 to 125 degC, Pb-Free; Manufacturer: Linear Technology; PartNumber: LT3080IST#PBF; Extended Temp: E, I; Initial Accuracy(%): 1; Isupply(mA): 0.3; Vin Max(V): 36; Vin Min(V): 1.2; DatasheetVersion: Rev. F; PackageVersion: Jun-10; PackageReference: ST-3; PackageDescription: 3-Pin Plastic SOT-223, Body 3.505 x 6.505 mm, Pitch 2.3 mm; Supplier 1: Digi-Key; Supplier Part Number 1: LT3080IST#PBF-ND; Supplier 2: Farnell; Supplier Part Number 2: 2295275; Supplier 3: Newark; Supplier Part Number 3: 78T3975; RoHS: TRUE; Mounting Technology: Surface Mount; ComponentLink1Description: Manufacturer URL; ComponentLink1URL: http://www.linear.com/; ComponentLink2Description: Datasheet; ComponentLink2URL: http://cds.linear.com/docs/en/datasheet/3080fc.pdf; ComponentLink3Description: Package Specification; ComponentLink3URL: http://cds.linear.com/docs/en/packaging/SOT_3_05-08-1630.pdf
footprint LT-ST-3-SOT-223_N (SOT223, 4-Leads, Body 6.505x3.505mm, Pitch 2.3mm, IPC Medium Density)
footprint LT-ST-3-SOT-223_L (SOT223, 4-Leads, Body 6.505x3.505mm, Pitch 2.3mm, IPC High Density)
footprint LT-ST-3-SOT-223_M (SOT223, 4-Leads, Body 6.505x3.505mm, Pitch 2.3mm, IPC Low Density)
pins: 1 SET (in) "This pin is the error amplifier’s noninverting input and also sets the operating bias point of the circuit. A fixed 10uA current source flows out of this pin. Two resistors program IOUT as a function of the resistor rati(See Datasheet)", 2 OUT (power) "This is the power output of the device. The minimum current source value to which the device can be set is 0.5mA or the device will not regulate.", 3 IN (power) "This pin supplies power to bias internal circuitry and supply output load current. For the device to operate properly and regulate, the voltage on this pin must be 1.2V to 1.4V above the OUT pin (depending on output load (See Datasheet)", 4 TAB (power)

## LT3080IST#TRPBF
designator U?
Adjustable 1.1 A Single Resistor Low Dropout Regulator, 0.3 mA Isupply, 3-pin SOT223 (ST-3), -40 to 125 degC, Pb-Free, Tape and Reel; Manufacturer: Linear Technology; PartNumber: LT3080IST#TRPBF; Extended Temp: E, I; Initial Accuracy(%): 1; Isupply(mA): 0.3; Vin Max(V): 36; Vin Min(V): 1.2; DatasheetVersion: Rev. F; PackageVersion: Jun-10; PackageReference: ST-3; PackageDescription: 3-Pin Plastic SOT-223, Body 3.505 x 6.505 mm, Pitch 2.3 mm; Supplier 1: Digi-Key; Supplier Part Number 1: LT3080IST#TRPBF-ND; Supplier 2: Newark; Supplier Part Number 2: 78T3976; Packing: Tape and Reel; RoHS: TRUE; Mounting Technology: Surface Mount; ComponentLink1Description: Manufacturer URL; ComponentLink1URL: http://www.linear.com/; ComponentLink2Description: Datasheet; ComponentLink2URL: http://cds.linear.com/docs/en/datasheet/3080fc.pdf; ComponentLink3Description: Package Specification; ComponentLink3URL: http://cds.linear.com/docs/en/packaging/SOT_3_05-08-1630.pdf
footprint LT-ST-3-SOT-223_N (SOT223, 4-Leads, Body 6.505x3.505mm, Pitch 2.3mm, IPC Medium Density)
footprint LT-ST-3-SOT-223_L (SOT223, 4-Leads, Body 6.505x3.505mm, Pitch 2.3mm, IPC High Density)
footprint LT-ST-3-SOT-223_M (SOT223, 4-Leads, Body 6.505x3.505mm, Pitch 2.3mm, IPC Low Density)
pins: 1 SET (in) "This pin is the error amplifier’s noninverting input and also sets the operating bias point of the circuit. A fixed 10uA current source flows out of this pin. Two resistors program IOUT as a function of the resistor rati(See Datasheet)", 2 OUT (power) "This is the power output of the device. The minimum current source value to which the device can be set is 0.5mA or the device will not regulate.", 3 IN (power) "This pin supplies power to bias internal circuitry and supply output load current. For the device to operate properly and regulate, the voltage on this pin must be 1.2V to 1.4V above the OUT pin (depending on output load (See Datasheet)", 4 TAB (power)

## LT3080IT#PBF
designator U?
Adjustable 1.1 A Single Resistor Low Dropout Regulator, 0.3 mA Isupply, 5-pin FM (T-5), -40 to 125 degC, Pb-Free; Manufacturer: Linear Technology; PartNumber: LT3080IT#PBF; Extended Temp: E, I; Initial Accuracy(%): 1; Isupply(mA): 0.3; Vin Max(V): 36; Vin Min(V): 1.2; DatasheetVersion: Rev. F; PackageVersion: Aug-10; PackageReference: T-5; PackageDescription: 5-Pin Plastic TO-220 (Standard), Body 10.224 x 8.89 mm, Pitch 1.7 mm; Supplier 1: Digi-Key; Supplier Part Number 1: LT3080IT#PBF-ND; Supplier 2: Newark; Supplier Part Number 2: 78T3977; RoHS: TRUE; Mounting Technology: Through Hole; ComponentLink1Description: Manufacturer URL; ComponentLink1URL: http://www.linear.com/; ComponentLink2Description: Datasheet; ComponentLink2URL: http://cds.linear.com/docs/en/datasheet/3080fc.pdf; ComponentLink3Description: Package Specification; ComponentLink3URL: http://cds.linear.com/docs/en/packaging/TO-220_5_05-08-1421.pdf
footprint LT-T-5-S (FM, 5-Leads, Body 10.2235x4.3815mm, Pitch 1.7mm)
pins: 1 NC "No Connection. No connect pins have no connection to internal circuitry and may be tied to VIN, VCONTROL, VOUT , GND or floated.", 2 SET (in) "This pin is the input to the error amplifier and the regulation set point for the device. A fixed current of 10uA flows out of this pin through a single external resistor, which programs the output voltage of the device. (See Datasheet)", 3 OUT (power) "This is the power output of the device. There must be a minimum load current of 1mA or the output may not regulate.", 4 VCONTROL (power) "This pin is the supply pin for the control circuitry of the device. The current flow into this pin is about 1.7% of the output current. For the device to regulate, this voltage must be more than 1.2V to 1.35V greater than (See Datasheet)", 5 IN (power) "This is the collector to the power device of the LT3080. The output load current is supplied through this pin. For the device to regulate, the voltage at this pin must be more than 0.1V to 0.5V greater than the output (See Datasheet)"

## LT3080IT#TRPBF
designator U?
Adjustable 1.1 A Single Resistor Low Dropout Regulator, 0.3 mA Isupply, 5-pin FM (T-5), -40 to 125 degC, Pb-Free, Tape and Reel; Manufacturer: Linear Technology; PartNumber: LT3080IT#TRPBF; Extended Temp: E, I; Initial Accuracy(%): 1; Isupply(mA): 0.3; Vin Max(V): 36; Vin Min(V): 1.2; DatasheetVersion: Rev. F; PackageVersion: Aug-10; PackageReference: T-5; PackageDescription: 5-Pin Plastic TO-220 (Standard), Body 10.224 x 8.89 mm, Pitch 1.7 mm; Supplier 1: Digi-Key; Supplier Part Number 1: LT3080IT#TRPBF-ND; Packing: Tape and Reel; RoHS: TRUE; Mounting Technology: Through Hole; ComponentLink1Description: Manufacturer URL; ComponentLink1URL: http://www.linear.com/; ComponentLink2Description: Datasheet; ComponentLink2URL: http://cds.linear.com/docs/en/datasheet/3080fc.pdf; ComponentLink3Description: Package Specification; ComponentLink3URL: http://cds.linear.com/docs/en/packaging/TO-220_5_05-08-1421.pdf
footprint LT-T-5-S (FM, 5-Leads, Body 10.2235x4.3815mm, Pitch 1.7mm)
pins: 1 NC "No Connection. No connect pins have no connection to internal circuitry and may be tied to VIN, VCONTROL, VOUT , GND or floated.", 2 SET (in) "This pin is the input to the error amplifier and the regulation set point for the device. A fixed current of 10uA flows out of this pin through a single external resistor, which programs the output voltage of the device. (See Datasheet)", 3 OUT (power) "This is the power output of the device. There must be a minimum load current of 1mA or the output may not regulate.", 4 VCONTROL (power) "This pin is the supply pin for the control circuitry of the device. The current flow into this pin is about 1.7% of the output current. For the device to regulate, this voltage must be more than 1.2V to 1.35V greater than (See Datasheet)", 5 IN (power) "This is the collector to the power device of the LT3080. The output load current is supplied through this pin. For the device to regulate, the voltage at this pin must be more than 0.1V to 0.5V greater than the output (See Datasheet)"

## LT3085EDCB#PBF
designator U?
Adjustable 500 mA Single Resistor Low Dropout Regulator, 0.3 mA Isupply, 6-pin SON (DCB-6), -40 to 125 degC, Pb-Free; Manufacturer: Linear Technology; PartNumber: LT3085EDCB#PBF; Extended Temp: E, I, MP; Initial Accuracy(%): 1; Isupply(mA): 0.3; Vin Max(V): 36; Vin Min(V): 1.2; DatasheetVersion: Rev. B; PackageVersion: Rev. A, 03/2011; PackageReference: DCB-6; PackageDescription: 6-Pin Plastic DFN, Body 2 x 3 mm, Pitch 0.5 mm; Supplier 1: Farnell; Supplier Part Number 1: 2308197; Supplier 2: Newark; Supplier Part Number 2: 78T3981; RoHS: TRUE; Mounting Technology: Surface Mount; Code_JEDEC: MO-229; ComponentLink1Description: Manufacturer URL; ComponentLink1URL: http://www.linear.com/; ComponentLink2Description: Datasheet; ComponentLink2URL: http://cds.linear.com/docs/en/datasheet/3085fb.pdf; ComponentLink3Description: Package Specification; ComponentLink3URL: http://www.linear.com/docs/en/packaging/(DCB6)%20DFN%2005-08-1715%20Rev%20A.pdf
footprint LT-DCB-6_V (SON, 6-Leads, Body 3x2mm, Pitch 0.5mm, Thermal Pad 1.65x1.35mm)
pins: 1 OUT (power) "This is the power output of the device. There must be a minimum load current of 1mA or the output may not regulate. A minimum 2.2uF output capacitor is required for stability.", 2 OUT (power) "This is the power output of the device. There must be a minimum load current of 1mA or the output may not regulate. A minimum 2.2uF output capacitor is required for stability.", 3 SET (in) "This pin is the non-inverting input to the error amplifier and the regulation set point for the device. A fixed current of 10uA flows out of this pin through a single external resistor, which programs the output voltage of (See Datasheet)", 4 VCONTROL (power) "This pin is the supply pin for the control circuitry of the device. The current flow into this pin is about 1.7% of the output current. For the device to regulate, this voltage must be more than 1.2V to 1.35V greater than (See Datasheet)", 5 IN (power) "This is the collector to the power device of the LT3085. The output load current is supplied through this pin. For the device to regulate, the voltage at this pin must be more than 0.1V to 0.5V greater than the output (See Datasheet)", 6 IN (power) "This is the collector to the power device of the LT3085. The output load current is supplied through this pin. For the device to regulate, the voltage at this pin must be more than 0.1V to 0.5V greater than the output (See Datasheet)", 7 EP (power) "OUT. Tie directly to Pins 1, 2/Pins 2, 3 directly at the PCB."

## LT3085EDCB#TRMPBF
designator U?
Adjustable 500 mA Single Resistor Low Dropout Regulator, 0.3 mA Isupply, 6-pin SON (DCB-6), -40 to 125 degC, Pb-Free, Mini Tape and Reel; Manufacturer: Linear Technology; PartNumber: LT3085EDCB#TRMPBF; Extended Temp: E, I, MP; Initial Accuracy(%): 1; Isupply(mA): 0.3; Vin Max(V): 36; Vin Min(V): 1.2; DatasheetVersion: Rev. B; PackageVersion: Rev. A, 03/2011; PackageReference: DCB-6; PackageDescription: 6-Pin Plastic DFN, Body 2 x 3 mm, Pitch 0.5 mm; Supplier 1: Digi-Key; Supplier Part Number 1: LT3085EDCB#TRMPBFTR-ND; Supplier 2: Digi-Key; Supplier Part Number 2: LT3085EDCB#TRMPBFCT-ND; Supplier 3: Digi-Key; Supplier Part Number 3: LT3085EDCB#TRMPBFDKR-ND; Supplier 4: Farnell; Supplier Part Number 4: 1715218; Supplier 5: Farnell; Supplier Part Number 5: 1715218RL; Supplier 6: Newark; Supplier Part Number 6: 12P7606; Packing: Mini Tape and Reel; RoHS: TRUE; Mounting Technology: Surface Mount; Code_JEDEC: MO-229; ComponentLink1Description: Manufacturer URL; ComponentLink1URL: http://www.linear.com/; ComponentLink2Description: Datasheet; ComponentLink2URL: http://cds.linear.com/docs/en/datasheet/3085fb.pdf; ComponentLink3Description: Package Specification; ComponentLink3URL: http://www.linear.com/docs/en/packaging/(DCB6)%20DFN%2005-08-1715%20Rev%20A.pdf
footprint LT-DCB-6_V (SON, 6-Leads, Body 3x2mm, Pitch 0.5mm, Thermal Pad 1.65x1.35mm)
pins: 1 OUT (power) "This is the power output of the device. There must be a minimum load current of 1mA or the output may not regulate. A minimum 2.2uF output capacitor is required for stability.", 2 OUT (power) "This is the power output of the device. There must be a minimum load current of 1mA or the output may not regulate. A minimum 2.2uF output capacitor is required for stability.", 3 SET (in) "This pin is the non-inverting input to the error amplifier and the regulation set point for the device. A fixed current of 10uA flows out of this pin through a single external resistor, which programs the output voltage of (See Datasheet)", 4 VCONTROL (power) "This pin is the supply pin for the control circuitry of the device. The current flow into this pin is about 1.7% of the output current. For the device to regulate, this voltage must be more than 1.2V to 1.35V greater than (See Datasheet)", 5 IN (power) "This is the collector to the power device of the LT3085. The output load current is supplied through this pin. For the device to regulate, the voltage at this pin must be more than 0.1V to 0.5V greater than the output (See Datasheet)", 6 IN (power) "This is the collector to the power device of the LT3085. The output load current is supplied through this pin. For the device to regulate, the voltage at this pin must be more than 0.1V to 0.5V greater than the output (See Datasheet)", 7 EP (power) "OUT. Tie directly to Pins 1, 2/Pins 2, 3 directly at the PCB."